# Altium footprint library CM200C.PcbLib: 1 footprints
Each footprint in its own frame and in the unit in brackets; x right, y up, seen from the top. Pads: shape width x height; smd on the part's side, far side on the other; paste and mask are expansions set on the pad; w line width, h text height; cw(c..) or ccw(c..) is an arc to the next point about the centre after c.
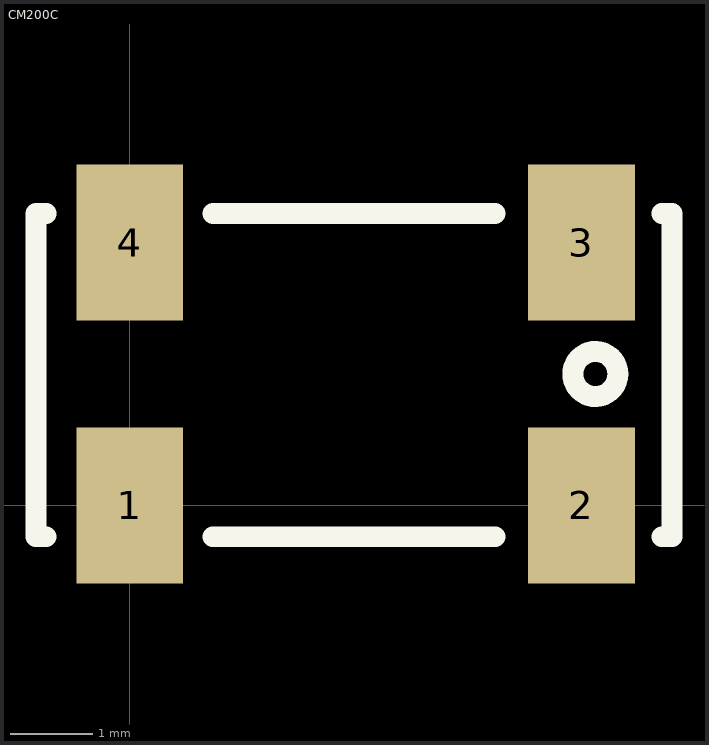
[diagram p0: the footprint, top view; thin cyan lines are the x and y axes]

## CM200C [mm] "Crystal oscillator - Citizen Micro"
height 2.4
pads (4):
  rect 1.3x1.9 smd: 1(0,0) 2(5.5,0) 3(5.5,3.2) 4(0,3.2)
Top Overlay:
  circle w0.254: c5.669,1.6 r0.275
  lines w0.254: -1.016,-0.381 -1.143,-0.381 -1.143,3.556 -1.016,3.556 ; 1.016,-0.381 4.445,-0.381 ; 1.016,3.556 4.445,3.556 ; 6.477,-0.381 6.604,-0.381 6.604,3.556 6.477,3.556
3D body: height 2.4, standoff 0, extent -1.118,-0.381 6.604,3.556